# Altium footprint library LDO.PcbLib: 100 footprints (part 3 of 7)
Each footprint in its own frame and in the unit in brackets; x right, y up, seen from the top. Pads: shape width x height; smd on the part's side, far side on the other; paste and mask are expansions set on the pad; w line width, h text height; cw(c..) or ccw(c..) is an arc to the next point about the centre after c.
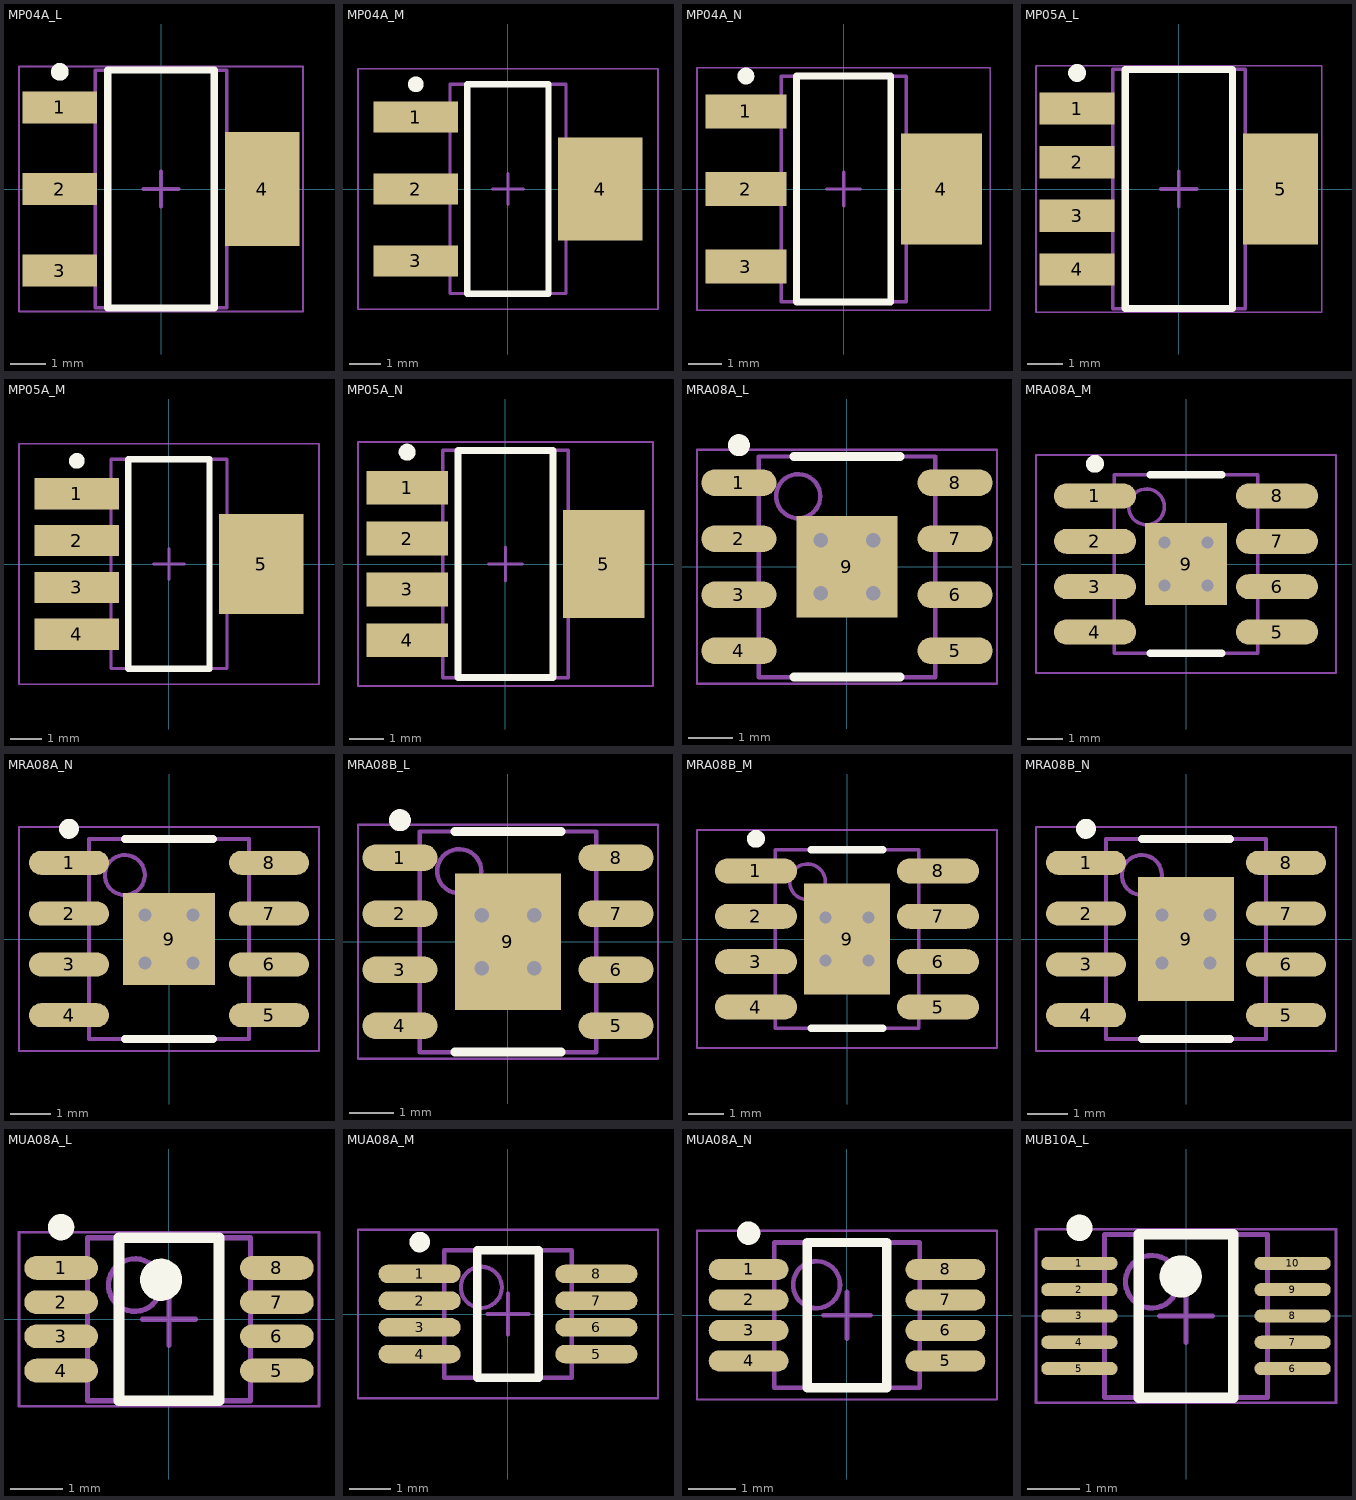
[diagram p2: the footprints below, top view; thin cyan lines are the x and y axes]

## MP04A_L [mm] "SOT223, 4-Leads, Body 6.5x3.5mm, Pitch 2.3mm, Lead Span 7mm, IPC High Density"
height 1.8
pads (4):
  rect 2.1x0.9 smd: 1(-2.85,2.3) 2(-2.85,0) 3(-2.85,-2.3)
  rect 2.1x3.2 smd: 4(2.85,0)
Top Overlay:
  circle w0.25: c-2.85,3.3 r0.125
  lines w0.2: -1.5,-3.35 1.5,-3.35 1.5,3.35 -1.5,3.35 -1.5,-3.35
Mechanical 13:
  lines w0.1: -1.855,-3.35 1.855,-3.35 1.855,3.35 -1.855,3.35 -1.855,-3.35
Mechanical 15:
  lines w0.05: -4,-3.45 4,-3.45 4,3.45 -4,3.45 -4,-3.45
  lines w0.1: -0.5,0 0.5,0 ; 0,-0.5 0,0.5
3D body: height 1.8, standoff 0.03, extent -1.855,-3.35 1.855,3.35

## MP04A_M [mm] "SOT223, 4-Leads, Body 6.5x3.5mm, Pitch 2.3mm, Lead Span 7mm, IPC Low Density"
height 1.8
pads (4):
  rect 2.7x1 smd: 1(-2.95,2.3) 2(-2.95,0) 3(-2.95,-2.3)
  rect 2.7x3.3 smd: 4(2.95,0)
Top Overlay:
  circle w0.25: c-2.95,3.35 r0.125
  lines w0.2: -1.3,-3.35 1.3,-3.35 1.3,3.35 -1.3,3.35 -1.3,-3.35
Mechanical 13:
  lines w0.1: -1.855,-3.35 1.855,-3.35 1.855,3.35 -1.855,3.35 -1.855,-3.35
Mechanical 15:
  lines w0.05: -4.8,-3.85 4.8,-3.85 4.8,3.85 -4.8,3.85 -4.8,-3.85
  lines w0.1: -0.5,0 0.5,0 ; 0,-0.5 0,0.5
3D body: height 1.8, standoff 0.03, extent -1.855,-3.35 1.855,3.35

## MP04A_N [mm] "SOT223, 4-Leads, Body 6.5x3.5mm, Pitch 2.3mm, Lead Span 7mm, IPC Medium Density"
height 1.8
pads (4):
  rect 2.4x1 smd: 1(-2.9,2.3) 2(-2.9,0) 3(-2.9,-2.3)
  rect 2.4x3.3 smd: 4(2.9,0)
Top Overlay:
  circle w0.25: c-2.9,3.35 r0.125
  lines w0.2: -1.4,-3.35 1.4,-3.35 1.4,3.35 -1.4,3.35 -1.4,-3.35
Mechanical 13:
  lines w0.1: -1.855,-3.35 1.855,-3.35 1.855,3.35 -1.855,3.35 -1.855,-3.35
Mechanical 15:
  lines w0.05: -4.35,-3.6 4.35,-3.6 4.35,3.6 -4.35,3.6 -4.35,-3.6
  lines w0.1: -0.5,0 0.5,0 ; 0,-0.5 0,0.5
3D body: height 1.8, standoff 0.03, extent -1.855,-3.35 1.855,3.35

## MP05A_L [mm] "SOT223, 5-Leads, Body 6.5x3.5mm, Pitch 1.5mm, Lead Span 7mm, IPC High Density"
height 1.8
pads (5):
  rect 2.1x0.9 smd: 1(-2.85,2.25) 2(-2.85,0.75) 3(-2.85,-0.75) 4(-2.85,-2.25)
  rect 2.1x3.1 smd: 5(2.85,0)
Top Overlay:
  circle w0.25: c-2.85,3.25 r0.125
  lines w0.2: -1.5,-3.35 1.5,-3.35 1.5,3.35 -1.5,3.35 -1.5,-3.35
Mechanical 13:
  lines w0.1: -1.855,-3.35 1.855,-3.35 1.855,3.35 -1.855,3.35 -1.855,-3.35
Mechanical 15:
  lines w0.05: -4,-3.45 4,-3.45 4,3.45 -4,3.45 -4,-3.45
  lines w0.1: -0.5,0 0.5,0 ; 0,-0.5 0,0.5
3D body: height 1.8, standoff 0.03, extent -1.855,-3.35 1.855,3.35

## MP05A_M [mm] "SOT223, 5-Leads, Body 6.5x3.5mm, Pitch 1.5mm, Lead Span 7mm, IPC Low Density"
height 1.8
pads (5):
  rect 2.7x1 smd: 1(-2.95,2.25) 2(-2.95,0.75) 3(-2.95,-0.75) 4(-2.95,-2.25)
  rect 2.7x3.2 smd: 5(2.95,0)
Top Overlay:
  circle w0.25: c-2.95,3.3 r0.125
  lines w0.2: -1.3,-3.35 -1.3,3.35 1.3,3.35 1.3,-3.35 -1.3,-3.35
Mechanical 13:
  lines w0.1: -1.855,-3.35 -1.855,3.35 1.855,3.35 1.855,-3.35 -1.855,-3.35
Mechanical 15:
  lines w0.05: -4.8,-3.85 -4.8,3.85 4.8,3.85 4.8,-3.85 -4.8,-3.85
  lines w0.1: -0.5,0 0.5,0 ; 0,-0.5 0,0.5
3D body: height 1.8, standoff 0.03, extent -1.855,-3.35 1.855,3.35

## MP05A_N [mm] "SOT223, 5-Leads, Body 6.5x3.5mm, Pitch 1.5mm, Lead Span 7mm, IPC Medium Density"
height 1.8
pads (5):
  rect 2.4x1 smd: 1(-2.9,2.25) 2(-2.9,0.75) 3(-2.9,-0.75) 4(-2.9,-2.25)
  rect 2.4x3.2 smd: 5(2.9,0)
Top Overlay:
  circle w0.25: c-2.9,3.3 r0.125
  lines w0.2: -1.4,-3.35 1.4,-3.35 1.4,3.35 -1.4,3.35 -1.4,-3.35
Mechanical 13:
  lines w0.1: -1.855,-3.35 1.855,-3.35 1.855,3.35 -1.855,3.35 -1.855,-3.35
Mechanical 15:
  lines w0.05: -4.35,-3.6 4.35,-3.6 4.35,3.6 -4.35,3.6 -4.35,-3.6
  lines w0.1: -0.5,0 0.5,0 ; 0,-0.5 0,0.5
3D body: height 1.8, standoff 0.03, extent -1.855,-3.35 1.855,3.35

## MRA08A_L [mm] "SOIC, 8-Leads, Body 4.9x3.9mm, Pitch 1.27mm, Exposed Pad, IPC High Density"
height 1.68
pads (9):
  oval 1.7x0.6 smd: 1(-2.45,1.905) 2(-2.45,0.635) 3(-2.45,-0.635) 4(-2.45,-1.905) 5(2.45,-1.905) 6(2.45,-0.635) 7(2.45,0.635) 8(2.45,1.905)
  rect 2.29x2.29 smd: 9(0,0)
via -0.6,0.6 diameter 0.66 hole 0.33
via 0.6,0.6 diameter 0.66 hole 0.33
via 0.6,-0.6 diameter 0.66 hole 0.33
via -0.6,-0.6 diameter 0.66 hole 0.33
Top Overlay:
  circle w0.25: c-2.45,2.755 r0.125
  lines w0.2: -1.2,-2.5 1.2,-2.5 ; -1.2,2.5 1.2,2.5
Mechanical 13:
  circle w0.1: c-1.105,1.6 r0.5
  lines w0.1: -2.005,-2.5 2.005,-2.5 2.005,2.5 -2.005,2.5 -2.005,-2.5
Mechanical 15:
  lines w0.05: -3.4,-2.65 3.4,-2.65 3.4,2.65 -3.4,2.65 -3.4,-2.65
  lines w0.1: -0.5,0 0.5,0 ; 0,-0.5 0,0.5
3D body: height 1.68, standoff 0.03, extent -2.005,-2.5 2.005,2.5

## MRA08A_M [mm] "SOIC, 8-Leads, Body 4.9x3.9mm, Pitch 1.27mm, Thermal Pad, IPC Low Density"
height 1.68
pads (9):
  oval 2.3x0.7 smd: 1(-2.55,1.905) 2(-2.55,0.635) 3(-2.55,-0.635) 4(-2.55,-1.905) 5(2.55,-1.905) 6(2.55,-0.635) 7(2.55,0.635) 8(2.55,1.905)
  rect 2.29x2.29 smd: 9(0,0)
via -0.6,0.6 diameter 0.66 hole 0.33
via 0.6,0.6 diameter 0.66 hole 0.33
via 0.6,-0.6 diameter 0.66 hole 0.33
via -0.6,-0.6 diameter 0.66 hole 0.33
Top Overlay:
  circle w0.25: c-2.55,2.805 r0.125
  lines w0.2: -1,-2.5 1,-2.5 ; -1,2.5 1,2.5
Mechanical 13:
  circle w0.1: c-1.105,1.6 r0.5
  lines w0.1: -2.005,-2.5 2.005,-2.5 2.005,2.5 -2.005,2.5 -2.005,-2.5
Mechanical 15:
  lines w0.05: -4.2,-3.05 4.2,-3.05 4.2,3.05 -4.2,3.05 -4.2,-3.05
  lines w0.1: -0.5,0 0.5,0 ; 0,-0.5 0,0.5
3D body: height 1.68, standoff 0.03, extent -2.005,-2.5 2.005,2.5

## MRA08A_N [mm] "SOIC, 8-Leads, Body 4.9x3.9mm, Pitch 1.27mm, Exposed Pad, IPC Medium Density"
height 1.68
pads (9):
  oval 2x0.6 smd: 1(-2.5,1.905) 2(-2.5,0.635) 3(-2.5,-0.635) 4(-2.5,-1.905) 5(2.5,-1.905) 6(2.5,-0.635) 7(2.5,0.635) 8(2.5,1.905)
  rect 2.29x2.29 smd: 9(0,0)
via -0.6,0.6 diameter 0.66 hole 0.33
via 0.6,0.6 diameter 0.66 hole 0.33
via 0.6,-0.6 diameter 0.66 hole 0.33
via -0.6,-0.6 diameter 0.66 hole 0.33
Top Overlay:
  circle w0.25: c-2.5,2.755 r0.125
  lines w0.2: -1.1,-2.5 1.1,-2.5 ; -1.1,2.5 1.1,2.5
Mechanical 13:
  circle w0.1: c-1.105,1.6 r0.5
  lines w0.1: -2.005,-2.5 2.005,-2.5 2.005,2.5 -2.005,2.5 -2.005,-2.5
Mechanical 15:
  lines w0.05: -3.75,-2.8 3.75,-2.8 3.75,2.8 -3.75,2.8 -3.75,-2.8
  lines w0.1: -0.5,0 0.5,0 ; 0,-0.5 0,0.5
3D body: height 1.68, standoff 0.03, extent -2.005,-2.5 2.005,2.5

## MRA08B_L [mm] "SOIC, 8-Leads, Body 4.9x3.9mm, Pitch 1.27mm, Exposed Pad, IPC High Density"
height 1.68
pads (9):
  oval 1.7x0.6 smd: 1(-2.45,1.905) 2(-2.45,0.635) 3(-2.45,-0.635) 4(-2.45,-1.905) 5(2.45,-1.905) 6(2.45,-0.635) 7(2.45,0.635) 8(2.45,1.905)
  rect 2.41x3.1 smd: 9(0,0)
via -0.6,0.6 diameter 0.66 hole 0.33
via 0.6,0.6 diameter 0.66 hole 0.33
via 0.6,-0.6 diameter 0.66 hole 0.33
via -0.6,-0.6 diameter 0.66 hole 0.33
Top Overlay:
  circle w0.25: c-2.45,2.755 r0.125
  lines w0.2: -1.2,-2.5 1.2,-2.5 ; -1.2,2.5 1.2,2.5
Mechanical 13:
  circle w0.1: c-1.105,1.6 r0.5
  lines w0.1: -2.005,-2.5 -2.005,2.5 2.005,2.5 2.005,-2.5 -2.005,-2.5
Mechanical 15:
  lines w0.05: -3.4,-2.65 -3.4,2.65 3.4,2.65 3.4,-2.65 -3.4,-2.65
  lines w0.1: -0.5,0 0.5,0 ; 0,-0.5 0,0.5
3D body: height 1.68, standoff 0.03, extent -2.005,-2.5 2.005,2.5

## MRA08B_M [mm] "SOIC, 8-Leads, Body 4.9x3.9mm, Pitch 1.27mm, Thermal Pad, IPC Low Density"
height 1.68
pads (9):
  oval 2.3x0.7 smd: 1(-2.55,1.905) 2(-2.55,0.635) 3(-2.55,-0.635) 4(-2.55,-1.905) 5(2.55,-1.905) 6(2.55,-0.635) 7(2.55,0.635) 8(2.55,1.905)
  rect 2.41x3.1 smd: 9(0,0)
via -0.6,0.6 diameter 0.66 hole 0.33
via 0.6,0.6 diameter 0.66 hole 0.33
via 0.6,-0.6 diameter 0.66 hole 0.33
via -0.6,-0.6 diameter 0.66 hole 0.33
Top Overlay:
  circle w0.25: c-2.55,2.805 r0.125
  lines w0.2: -1,-2.5 1,-2.5 ; -1,2.5 1,2.5
Mechanical 13:
  circle w0.1: c-1.105,1.6 r0.5
  lines w0.1: -2.005,-2.5 -2.005,2.5 2.005,2.5 2.005,-2.5 -2.005,-2.5
Mechanical 15:
  lines w0.05: -4.2,-3.05 -4.2,3.05 4.2,3.05 4.2,-3.05 -4.2,-3.05
  lines w0.1: -0.5,0 0.5,0 ; 0,-0.5 0,0.5
3D body: height 1.68, standoff 0.03, extent -2.005,-2.5 2.005,2.5

## MRA08B_N [mm] "SOIC, 8-Leads, Body 4.9x3.9mm, Pitch 1.27mm, Exposed Pad, IPC Medium Density"
height 1.68
pads (9):
  oval 2x0.6 smd: 1(-2.5,1.905) 2(-2.5,0.635) 3(-2.5,-0.635) 4(-2.5,-1.905) 5(2.5,-1.905) 6(2.5,-0.635) 7(2.5,0.635) 8(2.5,1.905)
  rect 2.41x3.1 smd: 9(0,0)
via -0.6,0.6 diameter 0.66 hole 0.33
via 0.6,0.6 diameter 0.66 hole 0.33
via 0.6,-0.6 diameter 0.66 hole 0.33
via -0.6,-0.6 diameter 0.66 hole 0.33
Top Overlay:
  circle w0.25: c-2.5,2.755 r0.125
  lines w0.2: -1.1,-2.5 1.1,-2.5 ; -1.1,2.5 1.1,2.5
Mechanical 13:
  circle w0.1: c-1.105,1.6 r0.5
  lines w0.1: -2.005,-2.5 2.005,-2.5 2.005,2.5 -2.005,2.5 -2.005,-2.5
Mechanical 15:
  lines w0.05: -3.75,-2.8 3.75,-2.8 3.75,2.8 -3.75,2.8 -3.75,-2.8
  lines w0.1: -0.5,0 0.5,0 ; 0,-0.5 0,0.5
3D body: height 1.68, standoff 0.03, extent -2.005,-2.5 2.005,2.5

## MUA08A_L [mm] "TSOP, 8-Leads, Body 3x3mm, Pitch 0.65mm, IPC High Density"
height 1.09
pads (8):
  oval 1.4x0.45 smd: 1(-2.05,0.975) 2(-2.05,0.325) 3(-2.05,-0.325) 4(-2.05,-0.975) 5(2.05,-0.975) 6(2.05,-0.325) 7(2.05,0.325) 8(2.05,0.975)
Top Overlay:
  circle w0.25: c-2.05,1.75 r0.125
  circle w0.4: c-0.15,0.75 r0.2
  lines w0.2: -0.95,-1.55 -0.95,1.55 0.95,1.55 0.95,-1.55 -0.95,-1.55
Mechanical 13:
  circle w0.1: c-0.65,0.65 r0.5
  lines w0.1: -1.55,-1.55 -1.55,1.55 1.55,1.55 1.55,-1.55 -1.55,-1.55
Mechanical 15:
  lines w0.05: -2.85,-1.65 -2.85,1.65 2.85,1.65 2.85,-1.65 -2.85,-1.65
  lines w0.1: -0.5,0 0.5,0 ; 0,-0.5 0,0.5
3D body: height 1.09, standoff 0.06, extent -1.55,-1.55 1.55,1.55

## MUA08A_M [mm] "TSOP, 8-Leads, Body 3x3mm, Pitch 0.65mm, IPC Low Density"
height 1.09
pads (8):
  oval 2x0.45 smd: 1(-2.15,0.975) 2(-2.15,0.325) 3(-2.15,-0.325) 4(-2.15,-0.975) 5(2.15,-0.975) 6(2.15,-0.325) 7(2.15,0.325) 8(2.15,0.975)
Top Overlay:
  circle w0.25: c-2.15,1.75 r0.125
  lines w0.2: -0.75,-1.55 0.75,-1.55 0.75,1.55 -0.75,1.55 -0.75,-1.55
Mechanical 13:
  circle w0.1: c-0.65,0.65 r0.5
  lines w0.1: -1.55,-1.55 1.55,-1.55 1.55,1.55 -1.55,1.55 -1.55,-1.55
Mechanical 15:
  lines w0.05: -3.65,-2.05 3.65,-2.05 3.65,2.05 -3.65,2.05 -3.65,-2.05
  lines w0.1: -0.5,0 0.5,0 ; 0,-0.5 0,0.5
3D body: height 1.09, standoff 0.06, extent -1.55,-1.55 1.55,1.55

## MUA08A_N [mm] "TSOP, 8-Leads, Body 3x3mm, Pitch 0.65mm, IPC Medium Density"
height 1.09
pads (8):
  oval 1.7x0.45 smd: 1(-2.1,0.975) 2(-2.1,0.325) 3(-2.1,-0.325) 4(-2.1,-0.975) 5(2.1,-0.975) 6(2.1,-0.325) 7(2.1,0.325) 8(2.1,0.975)
Top Overlay:
  circle w0.25: c-2.1,1.75 r0.125
  lines w0.2: -0.85,-1.55 -0.85,1.55 0.85,1.55 0.85,-1.55 -0.85,-1.55
Mechanical 13:
  circle w0.1: c-0.65,0.65 r0.5
  lines w0.1: -1.55,-1.55 -1.55,1.55 1.55,1.55 1.55,-1.55 -1.55,-1.55
Mechanical 15:
  lines w0.05: -3.2,-1.8 -3.2,1.8 3.2,1.8 3.2,-1.8 -3.2,-1.8
  lines w0.1: -0.5,0 0.5,0 ; 0,-0.5 0,0.5
3D body: height 1.09, standoff 0.06, extent -1.55,-1.55 1.55,1.55

## MUB10A_L [mm] "TSSOP, 10-Leads, Body 3x3mm, Pitch 0.5mm, IPC High Density"
height 1.09
pads (10):
  oval 1.45x0.25 smd: 1(-2.025,1) 2(-2.025,0.5) 3(-2.025,0) 4(-2.025,-0.5) 5(-2.025,-1) 6(2.025,-1) 7(2.025,-0.5) 8(2.025,0) 9(2.025,0.5) 10(2.025,1)
Top Overlay:
  circle w0.4: c-0.1,0.75 r0.2
  circle w0.25: c-2.025,1.675 r0.125
  lines w0.2: -0.9,-1.55 0.9,-1.55 0.9,1.55 -0.9,1.55 -0.9,-1.55
Mechanical 13:
  circle w0.1: c-0.65,0.65 r0.5
  lines w0.1: -1.55,-1.55 1.55,-1.55 1.55,1.55 -1.55,1.55 -1.55,-1.55
Mechanical 15:
  lines w0.05: -2.85,-1.65 2.85,-1.65 2.85,1.65 -2.85,1.65 -2.85,-1.65
  lines w0.1: -0.5,0 0.5,0 ; 0,-0.5 0,0.5
3D body: height 1.09, standoff 0.06, extent -1.55,-1.55 1.55,1.55